# Altium footprint library DIP1092W45P254L959H508Q8.PcbLib: 1 footprints
Each footprint in its own frame and in the unit in brackets; x right, y up, seen from the top. Pads: shape width x height; smd on the part's side, far side on the other; paste and mask are expansions set on the pad; w line width, h text height; cw(c..) or ccw(c..) is an arc to the next point about the centre after c.
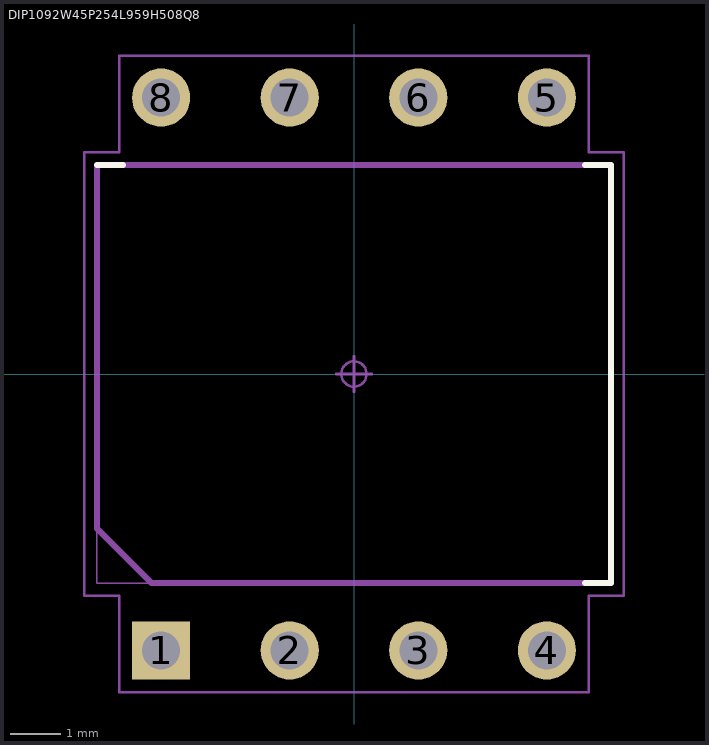
[diagram p0: the footprint, top view; thin cyan lines are the x and y axes]

## DIP1092W45P254L959H508Q8 [mm] "DIP, 10.92 mm lead span, 2.54 mm pitch; 8 pin, 9.59 mm L X 7.94 mm W X 5.08 mm H body"
height 5.08
pads (8):
  rect 1.15x1.15 / inner round 1.15 / far side rect 1.15x1.15 hole 0.75 paste-1.15: 1(-3.81,-5.46)
  round 1.15 hole 0.75 paste-1.15: 2(-1.27,-5.46) 3(1.27,-5.46) 4(3.81,-5.46) 5(3.81,5.46) 6(1.27,5.46) 7(-1.27,5.46) 8(-3.81,5.46)
Top Overlay:
  lines w0.12: -5.08,4.13 -4.565,4.13 ; 4.565,-4.13 5.08,-4.13 5.08,4.13 4.565,4.13
Mechanical 9:
  lines w0.025: -4.075,-5.585 -3.545,-5.585 -3.545,-5.335 -4.075,-5.335 -4.075,-5.585 ; -4.075,5.335 -3.545,5.335 -3.545,5.585 -4.075,5.585 -4.075,5.335 ; -1.535,-5.585 -1.005,-5.585 -1.005,-5.335 -1.535,-5.335 -1.535,-5.585 ; -1.535,5.335 -1.005,5.335 -1.005,5.585 -1.535,5.585 -1.535,5.335 ; 1.005,-5.585 1.535,-5.585 1.535,-5.335 1.005,-5.335 1.005,-5.585 ; 1.005,5.335 1.535,5.335 1.535,5.585 1.005,5.585 1.005,5.335 ; 3.545,-5.585 4.075,-5.585 4.075,-5.335 3.545,-5.335 3.545,-5.585 ; 3.545,5.335 4.075,5.335 4.075,5.585 3.545,5.585 3.545,5.335
  text ".Designator" at -7.62,-0.508 h1.52
Mechanical 3:
  lines w0.12: -5.08,-3.048 -5.08,4.13 5.08,4.13 5.08,-4.13 -3.998,-4.13 -5.08,-3.048
Mechanical 7:
  circle w0.05: c0,0 r0.25
  lines w0.025: -5.08,-4.13 5.08,-4.13 5.08,4.13 -5.08,4.13 -5.08,-4.13
  lines w0.05: -0.35,0 0.35,0 ; 0,-0.35 0,0.35 ; -5.33,-4.38 -4.635,-4.38 -4.635,-6.285 4.635,-6.285 4.635,-4.38 5.33,-4.38 5.33,4.38 4.635,4.38 4.635,6.285 -4.635,6.285 -4.635,4.38 -5.33,4.38 -5.33,-4.38
3D body "DIP1092W45P254L959H508Q8.STEP": height 5.08, standoff -2, extent -5.08,-5.585 5.08,5.585
3D body "DIP1092W45P254L959H508Q8.STEP": height 5.08, standoff -2, extent -5.08,-5.582 5.08,5.588